# Altium schematic symbol library LibrairieBumper.SchLib: 1 symbol
Pins are listed as number, name and electrical type; pins without a type are passive.

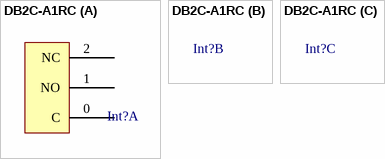
[diagram p0: symbol DB2C-A1RC]

## DB2C-A1RC
designator Int?  (value not drawn)
Microrupteur à galet
footprint PCBComponent_1
part A pins: 0 C, 1 NO, 2 NC